# EAGLE library part SFV20R-2STE1LF (library FCI_By_element14_Batch_1)
FFC/FPC CONNECTOR, RECEPTACLE 20POS 1ROW
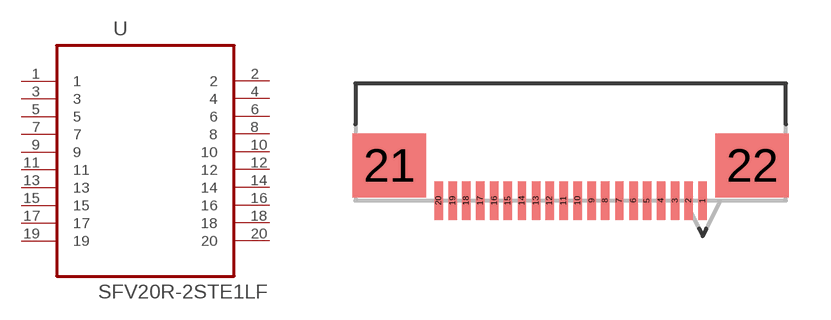
[diagram p51: symbol with the pads of FCI_SFV20R-2STE1LF; footprint FCI_SFV20R-2STE1LF]

Designator prefix U

## SFV20R-2STE1LF (MPN: SFV20R-2STE1LF; OC_FARNELL: -; OC_NEWARK: 62K5580; PACKAGE: CONNECTOR-20POS; SUPPLIER: FCI)  [FCI_SFV20R-2STE1LF]
1  1  pas
2  2  pas
3  3  pas
4  4  pas
5  5  pas
6  6  pas
7  7  pas
8  8  pas
9  9  pas
10  10  pas
11  11  pas
12  12  pas
13  13  pas
14  14  pas
15  15  pas
16  16  pas
17  17  pas
18  18  pas
19  19  pas
20  20  pas

## Footprint FCI_SFV20R-2STE1LF (pad centres in mm)
smd 0.305 x 1.397: 1 4.75,2.083; 2 4.242,2.083; 3 3.759,2.083; 4 3.251,2.083; 5 2.743,2.083; 6 2.261,2.083; 7 1.753,2.083; 8 1.245,2.083; 9 0.762,2.083; 10 0.254,2.083; 11 -0.254,2.083; 12 -0.762,2.083; 13 -1.245,2.083; 14 -1.753,2.083; 15 -2.261,2.083; 16 -2.743,2.083; 17 -3.251,2.083; 18 -3.759,2.083; 19 -4.242,2.083; 20 -4.75,2.083
smd 2.642 x 2.311: 21 -6.528,3.353; 22 6.528,3.353